# Altium integrated library TPS54140ADGQ.IntLib: 1 symbol
Pins are listed as number, name and electrical type; pins without a type are passive.

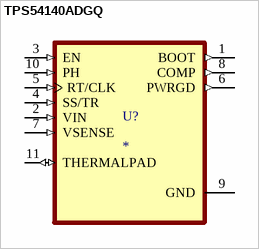
[diagram p0: symbol TPS54140ADGQ]

## TPS54140ADGQ
designator U?
3.5V to 42V Input, 1.5A Step-Down Converter with Eco-Mode 10-HVSSOP -40 to 125; MF: Texas Instruments; MP: TPS54140ADGQ; SnapEDA_Link: https://www.snapeda.com/parts/TPS54140ADGQ/Texas%20Instruments/view-part/1101421/?ref=snap; Check_prices: https://www.snapeda.com/parts/TPS54140ADGQ/Texas%20Instruments/view-part/1101421/?ref=eda; Availability: Good; Value: *; Package: HVSSOP-10 Texas Instruments; Purchase-URL: https://pricing.snapeda.com/search/part/TPS54140ADGQ/?ref=eda; Price: None
footprint IC_XTR111AIDGQR
pins: 1 BOOT (out), 2 VIN (in), 3 EN (in), 4 SS/TR (in), 5 RT/CLK (in), 6 PWRGD (out), 7 VSENSE (in), 8 COMP (out), 9 GND (power), 10 PH (in), 11 THERMALPAD (io)